# Altium integrated library Capacitor - Ceramic - Sumsung.IntLib: 1421 symbols (part 15 of 22)
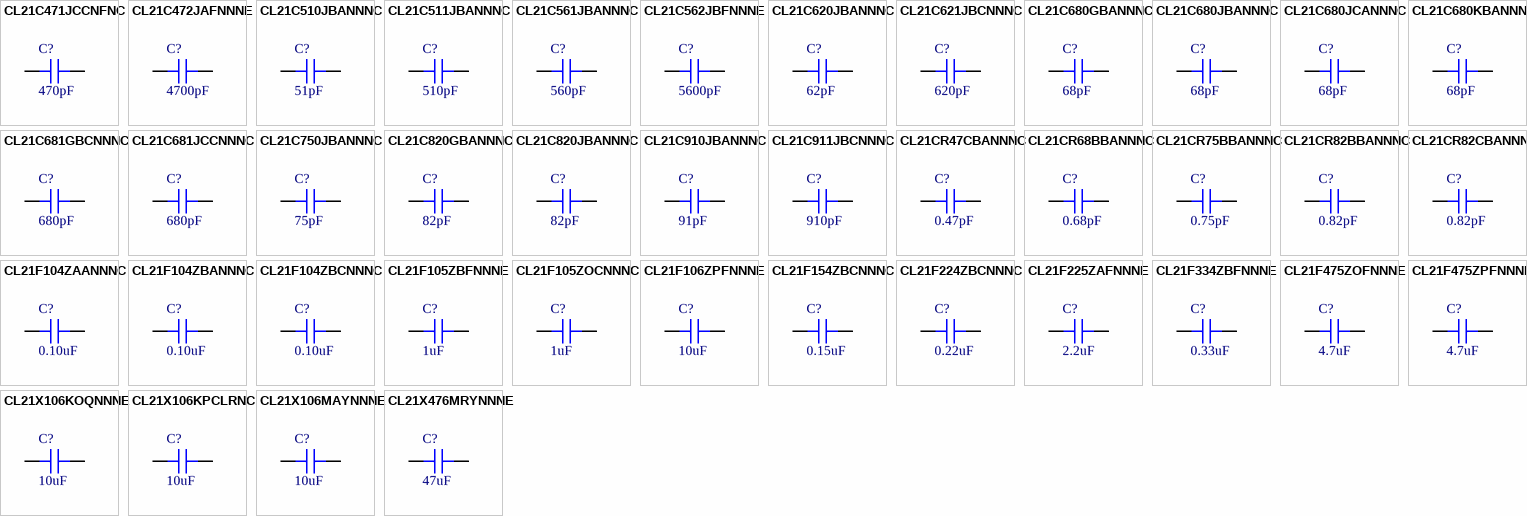
[diagram p49: symbols CL21C471JCCNFNC to CL21X476MRYNNNE]

## CL21CR82BBANNNC
designator C?, comment 0.82pF
CAP CER 0.82PF 50V NP0 0805; Part Number: CL21CR82BBANNNC; Manufacturer: Samsung Electro-Mechanics America, Inc.; TemperatureRange: -55C ~ 125C; TemperatureCoefficient: C0G, NP0; Tolerance: 0.1pF; Value: 0.82pF; PartId: 5691; Supplier 1: Digi-Key; Supplier Part Number 1: 1276-2703-2-ND; ComponentLink1Description: Datasheet; ComponentLink1URL: http://media.digikey.com/pdf/Data%20Sheets/Samsung%20PDFs/CL21CR82BBANNNC_Spec.pdf; ComponentLink2Description: Digi-Key listing; ComponentLink2URL: http://digikey.com/product-detail/en/CL21CR82BBANNNC/1276-2703-2-ND/3888361; Voltage: 50V; Price: 0.0075; Type: -; Device Package: 0805 (2012 Metric)
footprint CAP 0805/2012
pins: 1, 2

## CL21CR82CBANNNC
designator C?, comment 0.82pF
CAP CER 0.82PF 50V NP0 0805; Part Number: CL21CR82CBANNNC; Manufacturer: Samsung Electro-Mechanics America, Inc.; TemperatureRange: -55C ~ 125C; TemperatureCoefficient: C0G, NP0; Tolerance: 0.25pF; Value: 0.82pF; PartId: 5680; Supplier 1: Digi-Key; Supplier Part Number 1: 1276-2704-2-ND; ComponentLink1Description: Datasheet; ComponentLink1URL: http://media.digikey.com/pdf/Data%20Sheets/Samsung%20PDFs/CL21CR82CBANNNC_Spec.pdf; ComponentLink2Description: Digi-Key listing; ComponentLink2URL: http://digikey.com/product-detail/en/CL21CR82CBANNNC/1276-2704-2-ND/3888362; Voltage: 50V; Price: 0.0058; Type: -; Device Package: 0805 (2012 Metric)
footprint CAP 0805/2012
pins: 1, 2

## CL21F104ZAANNNC
designator C?, comment 0.10uF
CAP CER 0.1UF 25V Y5V 0805; Part Number: CL21F104ZAANNNC; Manufacturer: Samsung Electro-Mechanics America, Inc.; TemperatureRange: -30C ~ 85C; TemperatureCoefficient: Y5V (F); Tolerance: -20%, +80%; Value: 0.10uF; PartId: 13999; Supplier 1: Digi-Key; Supplier Part Number 1: 1276-1286-2-ND; ComponentLink1Description: Datasheet; ComponentLink1URL: http://www.samsungsem.com/kr/support/product-search/mlcc/CL21F104ZAANNNC.jsp; ComponentLink2Description: Digi-Key Listing; ComponentLink2URL: https://www.digikey.com/product-detail/en/samsung-electro-mechanics-america-inc/CL21F104ZAANNNC/1276-1286-2-ND/3886944; Voltage: 25V; Price: 0.006; Device Package: 0805 (2012 Metric)
footprint CAP 0805/2012
pins: 1, 2

## CL21F104ZBANNNC
designator C?, comment 0.10uF
CAP CER 0.1UF 50V Y5V 0805; Part Number: CL21F104ZBANNNC; Manufacturer: Samsung Electro-Mechanics America, Inc.; TemperatureRange: -30C ~ 85C; TemperatureCoefficient: Y5V (F); Tolerance: -20%, +80%; Value: 0.10uF; PartId: 14000; Supplier 1: Digi-Key; Supplier Part Number 1: 1276-1114-2-ND; ComponentLink1Description: Datasheet; ComponentLink1URL: http://www.samsungsem.com/kr/support/product-search/mlcc/CL21F104ZBANNNC.jsp; ComponentLink2Description: Digi-Key Listing; ComponentLink2URL: https://www.digikey.com/product-detail/en/samsung-electro-mechanics-america-inc/CL21F104ZBANNNC/1276-1114-2-ND/3886772; Voltage: 50V; Price: 0.006; Device Package: 0805 (2012 Metric)
footprint CAP 0805/2012
pins: 1, 2

## CL21F104ZBCNNNC
designator C?, comment 0.10uF
CAP CER 0.1UF 50V Y5V 0805; Part Number: CL21F104ZBCNNNC; Manufacturer: Samsung Electro-Mechanics America, Inc.; TemperatureRange: -30C ~ 85C; TemperatureCoefficient: Y5V (F); Tolerance: -20%, +80%; Value: 0.10uF; PartId: 13707; Supplier 1: Digi-Key; Supplier Part Number 1: 1276-1007-2-ND; ComponentLink1Description: Datasheet; ComponentLink1URL: http://www.samsungsem.com/kr/support/product-search/mlcc/CL21F104ZBCNNNC.jsp; ComponentLink2Description: Digi-Key Listing; ComponentLink2URL: https://www.digikey.com/product-detail/en/samsung-electro-mechanics-america-inc/CL21F104ZBCNNNC/1276-1007-2-ND/3886665; Voltage: 50V; Price: 0.006; Device Package: 0805 (2012 Metric)
footprint CAP 0805/2012
pins: 1, 2

## CL21F105ZBFNNNE
designator C?, comment 1uF
CAP CER 1UF 50V Y5V 0805; Part Number: CL21F105ZBFNNNE; Manufacturer: Samsung Electro-Mechanics America, Inc.; TemperatureRange: -30C ~ 85C; TemperatureCoefficient: Y5V (F); Tolerance: -20%, +80%; Value: 1uF; PartId: 13797; Supplier 1: Digi-Key; Supplier Part Number 1: 1276-3010-2-ND; ComponentLink1Description: Datasheet; ComponentLink1URL: http://www.samsungsem.com/kr/support/product-search/mlcc/CL21F105ZBFNNNE.jsp; ComponentLink2Description: Digi-Key Listing; ComponentLink2URL: https://www.digikey.com/product-detail/en/samsung-electro-mechanics-america-inc/CL21F105ZBFNNNE/1276-3010-2-ND/3888668; Voltage: 50V; Price: 0.0172; Device Package: 0805 (2012 Metric)
footprint CAP 0805/2012
pins: 1, 2

## CL21F105ZOCNNNC
designator C?, comment 1uF
CAP CER 1UF 16V Y5V 0805; Part Number: CL21F105ZOCNNNC; Manufacturer: Samsung Electro-Mechanics America, Inc.; TemperatureRange: -30C ~ 85C; TemperatureCoefficient: Y5V (F); Tolerance: -20%, +80%; Value: 1uF; PartId: 14027; Supplier 1: Digi-Key; Supplier Part Number 1: 1276-1246-2-ND; ComponentLink1Description: Datasheet; ComponentLink1URL: http://www.samsungsem.com/kr/support/product-search/mlcc/CL21F105ZOCNNNC.jsp; ComponentLink2Description: Digi-Key Listing; ComponentLink2URL: https://www.digikey.com/product-detail/en/samsung-electro-mechanics-america-inc/CL21F105ZOCNNNC/1276-1246-2-ND/3886904; Voltage: 16V; Price: 0.0082; Device Package: 0805 (2012 Metric)
footprint CAP 0805/2012
pins: 1, 2

## CL21F106ZPFNNNE
designator C?, comment 10uF
CAP CER 10UF 10V Y5V 0805; Part Number: CL21F106ZPFNNNE; Manufacturer: Samsung Electro-Mechanics America, Inc.; TemperatureRange: -30C ~ 85C; TemperatureCoefficient: Y5V (F); Tolerance: -20%, +80%; Value: 10uF; PartId: 13911; Supplier 1: Digi-Key; Supplier Part Number 1: 1276-3012-2-ND; ComponentLink1Description: Datasheet; ComponentLink1URL: http://www.samsungsem.com/kr/support/product-search/mlcc/CL21F106ZPFNNNE.jsp; ComponentLink2Description: Digi-Key Listing; ComponentLink2URL: https://www.digikey.com/product-detail/en/samsung-electro-mechanics-america-inc/CL21F106ZPFNNNE/1276-3012-2-ND/3888670; Voltage: 10V; Price: 0.0263; Device Package: 0805 (2012 Metric)
footprint CAP 0805/2012
pins: 1, 2

## CL21F154ZBCNNNC
designator C?, comment 0.15uF
CAP CER 0.15UF 50V Y5V 0805; Part Number: CL21F154ZBCNNNC; Manufacturer: Samsung Electro-Mechanics America, Inc.; TemperatureRange: -30C ~ 85C; TemperatureCoefficient: Y5V (F); Tolerance: -20%, +80%; Value: 0.15uF; PartId: 14028; Supplier 1: Digi-Key; Supplier Part Number 1: 1276-2708-2-ND; ComponentLink1Description: Datasheet; ComponentLink1URL: http://www.samsungsem.com/kr/support/product-search/mlcc/CL21F154ZBCNNNC.jsp; ComponentLink2Description: Digi-Key Listing; ComponentLink2URL: https://www.digikey.com/product-detail/en/samsung-electro-mechanics-america-inc/CL21F154ZBCNNNC/1276-2708-2-ND/3888366; Voltage: 50V; Price: 0.0042; Device Package: 0805 (2012 Metric)
footprint CAP 0805/2012
pins: 1, 2

## CL21F224ZBCNNNC
designator C?, comment 0.22uF
CAP CER 0.22UF 50V Y5V 0805; Part Number: CL21F224ZBCNNNC; Manufacturer: Samsung Electro-Mechanics America, Inc.; TemperatureRange: -30C ~ 85C; TemperatureCoefficient: Y5V (F); Tolerance: -20%, +80%; Value: 0.22uF; PartId: 14055; Supplier 1: Digi-Key; Supplier Part Number 1: 1276-2711-2-ND; ComponentLink1Description: Datasheet; ComponentLink1URL: http://www.samsungsem.com/kr/support/product-search/mlcc/CL21F224ZBCNNNC.jsp; ComponentLink2Description: Digi-Key Listing; ComponentLink2URL: https://www.digikey.com/product-detail/en/samsung-electro-mechanics-america-inc/CL21F224ZBCNNNC/1276-2711-2-ND/3888369; Voltage: 50V; Price: 0.0172; Device Package: 0805 (2012 Metric)
footprint CAP 0805/2012
pins: 1, 2

## CL21F225ZAFNNNE
designator C?, comment 2.2uF
CAP CER 2.2UF 25V Y5V 0805; Part Number: CL21F225ZAFNNNE; Manufacturer: Samsung Electro-Mechanics America, Inc.; TemperatureRange: -30C ~ 85C; TemperatureCoefficient: Y5V (F); Tolerance: -20%, +80%; Value: 2.2uF; PartId: 14054; Supplier 1: Digi-Key; Supplier Part Number 1: 1276-2874-2-ND; ComponentLink1Description: Datasheet; ComponentLink1URL: http://www.samsungsem.com/kr/support/product-search/mlcc/CL21F225ZAFNNNE.jsp; ComponentLink2Description: Digi-Key Listing; ComponentLink2URL: https://www.digikey.com/product-detail/en/samsung-electro-mechanics-america-inc/CL21F225ZAFNNNE/1276-2874-2-ND/3888532; Voltage: 25V; Price: 0.0205; Device Package: 0805 (2012 Metric)
footprint CAP 0805/2012
pins: 1, 2

## CL21F334ZBFNNNE
designator C?, comment 0.33uF
CAP CER 0.33UF 50V Y5V 0805; Part Number: CL21F334ZBFNNNE; Manufacturer: Samsung Electro-Mechanics America, Inc.; TemperatureRange: -30C ~ 85C; TemperatureCoefficient: Y5V (F); Tolerance: -20%, +80%; Value: 0.33uF; PartId: 14285; Supplier 1: Digi-Key; Supplier Part Number 1: 1276-3019-2-ND; ComponentLink1Description: Datasheet; ComponentLink1URL: http://www.samsungsem.com/kr/support/product-search/mlcc/CL21F334ZBFNNNE.jsp; ComponentLink2Description: Digi-Key Listing; ComponentLink2URL: https://www.digikey.com/product-detail/en/samsung-electro-mechanics-america-inc/CL21F334ZBFNNNE/1276-3019-2-ND/3888677; Voltage: 50V; Price: 0.01; Device Package: 0805 (2012 Metric)
footprint CAP 0805/2012
pins: 1, 2

## CL21F475ZOFNNNE
designator C?, comment 4.7uF
CAP CER 4.7UF 16V Y5V 0805; Part Number: CL21F475ZOFNNNE; Manufacturer: Samsung Electro-Mechanics America, Inc.; TemperatureRange: -30C ~ 85C; TemperatureCoefficient: Y5V (F); Tolerance: -20%, +80%; Value: 4.7uF; PartId: 13942; Supplier 1: Digi-Key; Supplier Part Number 1: 1276-3021-2-ND; ComponentLink1Description: Datasheet; ComponentLink1URL: http://www.samsungsem.com/kr/support/product-search/mlcc/CL21F475ZOFNNNE.jsp; ComponentLink2Description: Digi-Key Listing; ComponentLink2URL: https://www.digikey.com/product-detail/en/samsung-electro-mechanics-america-inc/CL21F475ZOFNNNE/1276-3021-2-ND/3888679; Voltage: 16V; Price: 0.0558; Device Package: 0805 (2012 Metric)
footprint CAP 0805/2012
pins: 1, 2

## CL21F475ZPFNNNE
designator C?, comment 4.7uF
CAP CER 4.7UF 10V Y5V 0805; Part Number: CL21F475ZPFNNNE; Manufacturer: Samsung Electro-Mechanics America, Inc.; TemperatureRange: -30C ~ 85C; TemperatureCoefficient: Y5V (F); Tolerance: -20%, +80%; Value: 4.7uF; PartId: 14284; Supplier 1: Digi-Key; Supplier Part Number 1: 1276-3022-2-ND; ComponentLink1Description: Datasheet; ComponentLink1URL: http://www.samsungsem.com/kr/support/product-search/mlcc/CL21F475ZPFNNNE.jsp; ComponentLink2Description: Digi-Key Listing; ComponentLink2URL: https://www.digikey.com/product-detail/en/samsung-electro-mechanics-america-inc/CL21F475ZPFNNNE/1276-3022-2-ND/3888680; Voltage: 10V; Price: 0.015; Device Package: 0805 (2012 Metric)
footprint CAP 0805/2012
pins: 1, 2

## CL21X106KOQNNNE
designator C?, comment 10uF
CAP CER 10UF 16V X6S 0805; Part Number: CL21X106KOQNNNE; Manufacturer: Samsung Electro-Mechanics America, Inc.; TemperatureRange: -55C ~ 105C; Tolerance: 10%; Value: 10uF; PartId: 14338; Supplier 1: Digi-Key; Supplier Part Number 1: 1276-3024-2-ND; ComponentLink1Description: Datasheet; ComponentLink1URL: //media.digikey.com/pdf/Data%20Sheets/Samsung%20PDFs/CL21X106KOQNNNE_Spec.pdf; ComponentLink2Description: Digi-Key Listing; ComponentLink2URL: https://www.digikey.com/product-detail/en/samsung-electro-mechanics-america-inc/CL21X106KOQNNNE/1276-3024-2-ND/3888682; TemperatureCoefficient: X6S; Voltage: 16V; Price: 0.054; Device Package: 0805 (2012 Metric)
footprint CAP 0805/2012
pins: 1, 2

## CL21X106KPCLRNC
designator C?, comment 10uF
CAP CER 10UF 10V X6S 0805; Part Number: CL21X106KPCLRNC; Manufacturer: Samsung Electro-Mechanics America, Inc.; TemperatureRange: -55C ~ 105C; Tolerance: 10%; Value: 10uF; PartId: 14216; Supplier 1: Digi-Key; Supplier Part Number 1: 1276-2717-2-ND; ComponentLink1Description: Datasheet; ComponentLink1URL: //media.digikey.com/pdf/Data%20Sheets/Samsung%20PDFs/CL21X106KPCLRNC_Spec.pdf; ComponentLink2Description: Digi-Key Listing; ComponentLink2URL: https://www.digikey.com/product-detail/en/samsung-electro-mechanics-america-inc/CL21X106KPCLRNC/1276-2717-2-ND/3888375; TemperatureCoefficient: X6S; Voltage: 10V; Price: 0.0477; Device Package: 0805 (2012 Metric)
footprint CAP 0805/2012
pins: 1, 2

## CL21X106MAYNNNE
designator C?, comment 10uF
CAP CER 10UF 25V X6S 0805; Part Number: CL21X106MAYNNNE; Manufacturer: Samsung Electro-Mechanics America, Inc.; TemperatureRange: -55C ~ 105C; Tolerance: 20%; Value: 10uF; PartId: 13890; Supplier 1: Digi-Key; Supplier Part Number 1: 1276-3027-2-ND; ComponentLink1Description: Datasheet; ComponentLink1URL: http://www.samsungsem.com/kr/front/downloadcms.do?path=/kr/support/product-search/mlcc/__icsFiles/afieldfile/2014/11/05&fileName=C_CL21X106MAYNNNE.pdf; ComponentLink2Description: Digi-Key Listing; ComponentLink2URL: https://www.digikey.com/product-detail/en/samsung-electro-mechanics-america-inc/CL21X106MAYNNNE/1276-3027-2-ND/3888685; TemperatureCoefficient: X6S; Voltage: 25V; Price: 0.1112; Device Package: 0805 (2012 Metric)
footprint CAP 0805/2012
pins: 1, 2

## CL21X476MRYNNNE
designator C?, comment 47uF
CAP CER 47UF 4V X6S 0805; Part Number: CL21X476MRYNNNE; Manufacturer: Samsung Electro-Mechanics America, Inc.; TemperatureRange: -55C ~ 105C; Tolerance: 20%; Value: 47uF; PartId: 14280; Supplier 1: Digi-Key; Supplier Part Number 1: 1276-3036-2-ND; ComponentLink1Description: Datasheet; ComponentLink1URL: http://www.samsungsem.com/kr/support/product-search/mlcc/CL21X476MRYNNNE.jsp; ComponentLink2Description: Digi-Key Listing; ComponentLink2URL: https://www.digikey.com/product-detail/en/samsung-electro-mechanics-america-inc/CL21X476MRYNNNE/1276-3036-2-ND/3888694; TemperatureCoefficient: X6S; Voltage: 4V; Price: 0.2064; Device Package: 0805 (2012 Metric)
footprint CAP 0805/2012
pins: 1, 2

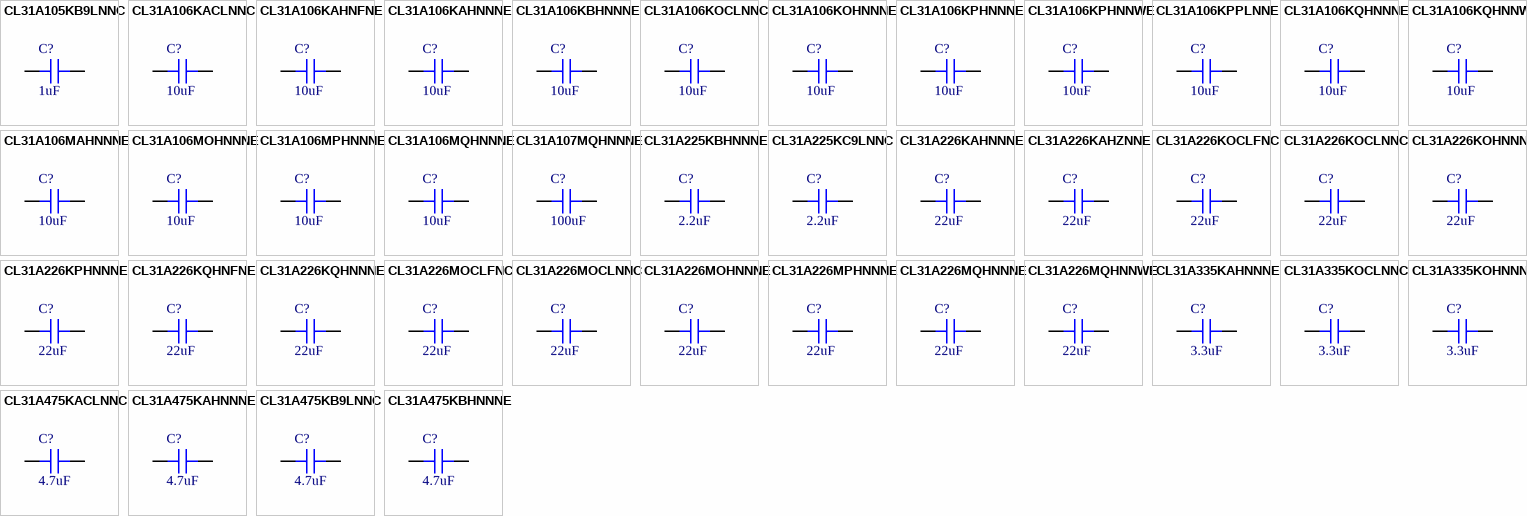
[diagram p24: symbols CL31A105KB9LNNC to CL31A475KBHNNNE]

## CL31A105KB9LNNC
designator C?, comment 1uF
CAP CER 1UF 50V X5R 1206; Part Number: CL31A105KB9LNNC; Manufacturer: Samsung Electro-Mechanics America, Inc.; TemperatureRange: -55C ~ 85C; Tolerance: 10%; Value: 1uF; PartId: 17215; Supplier 1: Digi-Key; Supplier Part Number 1: 1276-2719-2-ND; ComponentLink1Description: Datasheet; ComponentLink1URL: //media.digikey.com/pdf/Data%20Sheets/Samsung%20PDFs/CL31A105KB9LNNC_Spec.pdf; ComponentLink2Description: Digi-Key Listing; ComponentLink2URL: https://www.digikey.com/product-detail/en/samsung-electro-mechanics-america-inc/CL31A105KB9LNNC/1276-2719-2-ND/3888377; TemperatureCoefficient: X5R; Voltage: 50V; Price: 0.0722; Device Package: 1206 (3216 Metric)
footprint CAP 1206/3216 - 1.0MM
pins: 1, 2

## CL31A106KACLNNC
designator C?, comment 10uF
CAP CER 10UF 25V X5R 1206; Part Number: CL31A106KACLNNC; Manufacturer: Samsung Electro-Mechanics America, Inc.; TemperatureRange: -55C ~ 85C; Tolerance: 10%; Value: 10uF; PartId: 15863; Supplier 1: Digi-Key; Supplier Part Number 1: 1276-2720-2-ND; ComponentLink1Description: Datasheet; ComponentLink1URL: //media.digikey.com/pdf/Data%20Sheets/Samsung%20PDFs/CL31A106KACLNNC_Spec.pdf; ComponentLink2Description: Digi-Key Listing; ComponentLink2URL: https://www.digikey.com/product-detail/en/samsung-electro-mechanics-america-inc/CL31A106KACLNNC/1276-2720-2-ND/3888378; TemperatureCoefficient: X5R; Voltage: 25V; Price: 0.0661; Device Package: 1206 (3216 Metric)
footprint CAP 1206/3216
pins: 1, 2

## CL31A106KAHNFNE
designator C?, comment 10uF
CAP CER 10UF 25V X5R 1206; Part Number: CL31A106KAHNFNE; Manufacturer: Samsung Electro-Mechanics America, Inc.; TemperatureRange: -55C ~ 85C; Tolerance: 10%; Value: 10uF; PartId: 15948; Supplier 1: Digi-Key; Supplier Part Number 1: 1276-3038-2-ND; ComponentLink1Description: Datasheet; ComponentLink1URL: //media.digikey.com/pdf/Data%20Sheets/Samsung%20PDFs/CL31A106KAHNFNE_Spec.pdf; ComponentLink2Description: Digi-Key Listing; ComponentLink2URL: https://www.digikey.com/product-detail/en/samsung-electro-mechanics-america-inc/CL31A106KAHNFNE/1276-3038-2-ND/3888696; TemperatureCoefficient: X5R; Voltage: 25V; Price: 0.0613; Device Package: 1206 (3216 Metric)
footprint CAP 1206/3216
pins: 1, 2

## CL31A106KAHNNNE
designator C?, comment 10uF
CAP CER 10UF 25V X5R 1206; Part Number: CL31A106KAHNNNE; Manufacturer: Samsung Electro-Mechanics America, Inc.; TemperatureRange: -55C ~ 85C; Tolerance: 10%; Value: 10uF; PartId: 15740; Supplier 1: Digi-Key; Supplier Part Number 1: 1276-1075-2-ND; ComponentLink1Description: Datasheet; ComponentLink1URL: http://www.samsungsem.com/kr/support/product-search/mlcc/CL31A106KAHNNNE.jsp; ComponentLink2Description: Digi-Key Listing; ComponentLink2URL: https://www.digikey.com/product-detail/en/samsung-electro-mechanics-america-inc/CL31A106KAHNNNE/1276-1075-2-ND/3886733; TemperatureCoefficient: X5R; Voltage: 25V; Price: 0.0613; Device Package: 1206 (3216 Metric)
footprint CAP 1206/3216
pins: 1, 2

## CL31A106KBHNNNE
designator C?, comment 10uF
CAP CER 10UF 50V X5R 1206; Part Number: CL31A106KBHNNNE; Manufacturer: Samsung Electro-Mechanics America, Inc.; TemperatureRange: -55C ~ 85C; Tolerance: 10%; Value: 10uF; PartId: 15802; Supplier 1: Digi-Key; Supplier Part Number 1: 1276-2876-2-ND; ComponentLink1Description: Datasheet; ComponentLink1URL: http://www.samsungsem.com/kr/support/product-search/mlcc/CL31A106KBHNNNE.jsp; ComponentLink2Description: Digi-Key Listing; ComponentLink2URL: https://www.digikey.com/product-detail/en/samsung-electro-mechanics-america-inc/CL31A106KBHNNNE/1276-2876-2-ND/3888534; TemperatureCoefficient: X5R; Voltage: 50V; Price: 0.2078; Device Package: 1206 (3216 Metric)
footprint CAP 1206/3216
pins: 1, 2

## CL31A106KOCLNNC
designator C?, comment 10uF
CAP CER 10UF 16V X5R 1206; Part Number: CL31A106KOCLNNC; Manufacturer: Samsung Electro-Mechanics America, Inc.; TemperatureRange: -55C ~ 85C; Tolerance: 10%; Value: 10uF; PartId: 15855; Supplier 1: Digi-Key; Supplier Part Number 1: 1276-2721-2-ND; ComponentLink1Description: Datasheet; ComponentLink1URL: //media.digikey.com/pdf/Data%20Sheets/Samsung%20PDFs/CL31A106KOCLNNC_Spec.pdf; ComponentLink2Description: Digi-Key Listing; ComponentLink2URL: https://www.digikey.com/product-detail/en/samsung-electro-mechanics-america-inc/CL31A106KOCLNNC/1276-2721-2-ND/3888379; TemperatureCoefficient: X5R; Voltage: 16V; Price: 0.0558; Device Package: 1206 (3216 Metric)
footprint CAP 1206/3216
pins: 1, 2

## CL31A106KOHNNNE
designator C?, comment 10uF
CAP CER 10UF 16V X5R 1206; Part Number: CL31A106KOHNNNE; Manufacturer: Samsung Electro-Mechanics America, Inc.; TemperatureRange: -55C ~ 85C; Tolerance: 10%; Value: 10uF; PartId: 17475; Supplier 1: Digi-Key; Supplier Part Number 1: 1276-1137-2-ND; ComponentLink1Description: Datasheet; ComponentLink1URL: http://www.samsungsem.com/kr/support/product-search/mlcc/__icsFiles/afieldfile/2016/08/18/S_CL31A106KOHNNNE.pdf; ComponentLink2Description: Digi-Key Listing; ComponentLink2URL: https://www.digikey.com/product-detail/en/samsung-electro-mechanics-america-inc/CL31A106KOHNNNE/1276-1137-2-ND/3886795; TemperatureCoefficient: X5R; Voltage: 16V; Price: 0.0641; Device Package: 1206 (3216 Metric)
footprint CAP 1206/3216 - 1.8MM
pins: 1, 2

## CL31A106KPHNNNE
designator C?, comment 10uF
CAP CER 10UF 10V X5R 1206; Part Number: CL31A106KPHNNNE; Manufacturer: Samsung Electro-Mechanics America, Inc.; TemperatureRange: -55C ~ 85C; Tolerance: 10%; Value: 10uF; PartId: 15858; Supplier 1: Digi-Key; Supplier Part Number 1: 1276-1148-2-ND; ComponentLink1Description: Datasheet; ComponentLink1URL: http://www.samsungsem.com/kr/front/downloadcms.do?path=/kr/support/product-search/mlcc/__icsFiles/afieldfile/2014/11/05&fileName=C_CL31A106KPHNNNE.pdf; ComponentLink2Description: Digi-Key Listing; ComponentLink2URL: https://www.digikey.com/product-detail/en/samsung-electro-mechanics-america-inc/CL31A106KPHNNNE/1276-1148-2-ND/3886806; TemperatureCoefficient: X5R; Voltage: 10V; Price: 0.0583; Device Package: 1206 (3216 Metric)
footprint CAP 1206/3216
pins: 1, 2

## CL31A106KPHNNWE
designator C?, comment 10uF
CAP CER 10UF 10V X5R 1206; Part Number: CL31A106KPHNNWE; Manufacturer: Samsung Electro-Mechanics America, Inc.; TemperatureRange: -55C ~ 85C; Tolerance: 10%; Value: 10uF; PartId: 16018; Supplier 1: Digi-Key; Supplier Part Number 1: 1276-3041-2-ND; ComponentLink1Description: Datasheet; ComponentLink1URL: //media.digikey.com/pdf/Data%20Sheets/Samsung%20PDFs/CL31A106KPHNNWE_Spec.pdf; ComponentLink2Description: Digi-Key Listing; ComponentLink2URL: https://www.digikey.com/product-detail/en/samsung-electro-mechanics-america-inc/CL31A106KPHNNWE/1276-3041-2-ND/3888699; TemperatureCoefficient: X5R; Voltage: 10V; Price: 0.0632; Device Package: 1206 (3216 Metric)
footprint CAP 1206/3216
pins: 1, 2

## CL31A106KPPLNNE
designator C?, comment 10uF
CAP CER 10UF 10V X5R 1206; Part Number: CL31A106KPPLNNE; Manufacturer: Samsung Electro-Mechanics America, Inc.; TemperatureRange: -55C ~ 85C; Tolerance: 10%; Value: 10uF; PartId: 15949; Supplier 1: Digi-Key; Supplier Part Number 1: 1276-3042-2-ND; ComponentLink1Description: Datasheet; ComponentLink1URL: //media.digikey.com/pdf/Data%20Sheets/Samsung%20PDFs/CL31A106KPPLNNE_Spec.pdf; ComponentLink2Description: Digi-Key Listing; ComponentLink2URL: https://www.digikey.com/product-detail/en/samsung-electro-mechanics-america-inc/CL31A106KPPLNNE/1276-3042-2-ND/3888700; TemperatureCoefficient: X5R; Voltage: 10V; Price: 0.0613; Device Package: 1206 (3216 Metric)
footprint CAP 1206/3216
pins: 1, 2

## CL31A106KQHNNNE
designator C?, comment 10uF
CAP CER 10UF 6.3V X5R 1206; Part Number: CL31A106KQHNNNE; Manufacturer: Samsung Electro-Mechanics America, Inc.; TemperatureRange: -55C ~ 85C; Tolerance: 10%; Value: 10uF; PartId: 15857; Supplier 1: Digi-Key; Supplier Part Number 1: 1276-1079-2-ND; ComponentLink1Description: Datasheet; ComponentLink1URL: http://www.samsungsem.com/kr/front/downloadcms.do?path=/kr/support/product-search/mlcc/__icsFiles/afieldfile/2014/11/05&fileName=C_CL31A106KQHNNNE.pdf; ComponentLink2Description: Digi-Key Listing; ComponentLink2URL: https://www.digikey.com/product-detail/en/samsung-electro-mechanics-america-inc/CL31A106KQHNNNE/1276-1079-2-ND/3886737; TemperatureCoefficient: X5R; Voltage: 6.3V; Price: 0.0583; Device Package: 1206 (3216 Metric)
footprint CAP 1206/3216
pins: 1, 2

## CL31A106KQHNNWE
designator C?, comment 10uF
CAP CER 10UF 6.3V X5R 1206; Part Number: CL31A106KQHNNWE; Manufacturer: Samsung Electro-Mechanics America, Inc.; TemperatureRange: -55C ~ 85C; Tolerance: 10%; Value: 10uF; PartId: 16017; Supplier 1: Digi-Key; Supplier Part Number 1: 1276-3043-2-ND; ComponentLink1Description: Datasheet; ComponentLink1URL: //media.digikey.com/pdf/Data%20Sheets/Samsung%20PDFs/CL31A106KQHNNWE_Character.pdf; ComponentLink2Description: Digi-Key Listing; ComponentLink2URL: https://www.digikey.com/product-detail/en/samsung-electro-mechanics-america-inc/CL31A106KQHNNWE/1276-3043-2-ND/3888701; TemperatureCoefficient: X5R; Voltage: 6.3V; Price: 0.0583; Device Package: 1206 (3216 Metric)
footprint CAP 1206/3216
pins: 1, 2

## CL31A106MAHNNNE
designator C?, comment 10uF
CAP CER 10UF 25V X5R 1206; Part Number: CL31A106MAHNNNE; Manufacturer: Samsung Electro-Mechanics America, Inc.; TemperatureRange: -55C ~ 85C; Tolerance: 20%; Value: 10uF; PartId: 15860; Supplier 1: Digi-Key; Supplier Part Number 1: 1276-1181-2-ND; ComponentLink1Description: Datasheet; ComponentLink1URL: http://www.samsungsem.com/kr/front/downloadcms.do?path=/kr/support/product-search/mlcc/__icsFiles/afieldfile/2014/11/05&fileName=C_CL31A106MAHNNNE.pdf; ComponentLink2Description: Digi-Key Listing; ComponentLink2URL: https://www.digikey.com/product-detail/en/samsung-electro-mechanics-america-inc/CL31A106MAHNNNE/1276-1181-2-ND/3886839; TemperatureCoefficient: X5R; Voltage: 25V; Price: 0.0613; Device Package: 1206 (3216 Metric)
footprint CAP 1206/3216
pins: 1, 2

## CL31A106MOHNNNE
designator C?, comment 10uF
CAP CER 10UF 16V X5R 1206; Part Number: CL31A106MOHNNNE; Manufacturer: Samsung Electro-Mechanics America, Inc.; TemperatureRange: -55C ~ 85C; Tolerance: 20%; Value: 10uF; PartId: 17981; Supplier 1: Digi-Key; Supplier Part Number 1: 1276-2877-2-ND; ComponentLink1Description: Datasheet; ComponentLink1URL: //media.digikey.com/pdf/Data%20Sheets/Samsung%20PDFs/CL31A106MOHNNNE_Character.pdf; ComponentLink2Description: Digi-Key Listing; ComponentLink2URL: https://www.digikey.com/product-detail/en/samsung-electro-mechanics-america-inc/CL31A106MOHNNNE/1276-2877-2-ND/3888535; TemperatureCoefficient: X5R; Voltage: 16V; Price: 0.0641; Device Package: 1206 (3216 Metric)
footprint CAP 1206/3216 - 1.8MM
pins: 1, 2

## CL31A106MPHNNNE
designator C?, comment 10uF
CAP CER 10UF 10V X5R 1206; Part Number: CL31A106MPHNNNE; Manufacturer: Samsung Electro-Mechanics America, Inc.; TemperatureRange: -55C ~ 85C; Tolerance: 20%; Value: 10uF; PartId: 15946; Supplier 1: Digi-Key; Supplier Part Number 1: 1276-3044-2-ND; ComponentLink1Description: Datasheet; ComponentLink1URL: //media.digikey.com/pdf/Data%20Sheets/Samsung%20PDFs/CL31A106MPHNNNE_Spec.pdf; ComponentLink2Description: Digi-Key Listing; ComponentLink2URL: https://www.digikey.com/product-detail/en/samsung-electro-mechanics-america-inc/CL31A106MPHNNNE/1276-3044-2-ND/3888702; TemperatureCoefficient: X5R; Voltage: 10V; Price: 0.0583; Device Package: 1206 (3216 Metric)
footprint CAP 1206/3216
pins: 1, 2

## CL31A106MQHNNNE
designator C?, comment 10uF
CAP CER 10UF 6.3V X5R 1206; Part Number: CL31A106MQHNNNE; Manufacturer: Samsung Electro-Mechanics America, Inc.; TemperatureRange: -55C ~ 85C; Tolerance: 20%; Value: 10uF; PartId: 15947; Supplier 1: Digi-Key; Supplier Part Number 1: 1276-3045-2-ND; ComponentLink1Description: Datasheet; ComponentLink1URL: //media.digikey.com/pdf/Data%20Sheets/Samsung%20PDFs/CL31A106MQHNNNE_Spec.pdf; ComponentLink2Description: Digi-Key Listing; ComponentLink2URL: https://www.digikey.com/product-detail/en/samsung-electro-mechanics-america-inc/CL31A106MQHNNNE/1276-3045-2-ND/3888703; TemperatureCoefficient: X5R; Voltage: 6.3V; Price: 0.0583; Device Package: 1206 (3216 Metric)
footprint CAP 1206/3216
pins: 1, 2

## CL31A107MQHNNNE
designator C?, comment 100uF
CAP CER 100UF 6.3V X5R 1206; Part Number: CL31A107MQHNNNE; Manufacturer: Samsung Electro-Mechanics America, Inc.; TemperatureRange: -55C ~ 85C; Tolerance: 20%; Value: 100uF; PartId: 15816; Supplier 1: Digi-Key; Supplier Part Number 1: 1276-1782-2-ND; ComponentLink1Description: Datasheet; ComponentLink1URL: http://www.samsungsem.com/kr/support/product-search/mlcc/CL31A107MQHNNNE.jsp; ComponentLink2Description: Digi-Key Listing; ComponentLink2URL: https://www.digikey.com/product-detail/en/samsung-electro-mechanics-america-inc/CL31A107MQHNNNE/1276-1782-2-ND/3887440; TemperatureCoefficient: X5R; Voltage: 6.3V; Price: 0.272; Device Package: 1206 (3216 Metric)
footprint CAP 1206/3216
pins: 1, 2

## CL31A225KBHNNNE
designator C?, comment 2.2uF
CAP CER 2.2UF 50V X5R 1206; Part Number: CL31A225KBHNNNE; Manufacturer: Samsung Electro-Mechanics America, Inc.; TemperatureRange: -55C ~ 85C; Tolerance: 10%; Value: 2.2uF; PartId: 17982; Supplier 1: Digi-Key; Supplier Part Number 1: 1276-2878-2-ND; ComponentLink1Description: Datasheet; ComponentLink1URL: //media.digikey.com/pdf/Data%20Sheets/Samsung%20PDFs/CL31A225KBHNNNE_Spec.pdf; ComponentLink2Description: Digi-Key Listing; ComponentLink2URL: https://www.digikey.com/product-detail/en/samsung-electro-mechanics-america-inc/CL31A225KBHNNNE/1276-2878-2-ND/3888536; TemperatureCoefficient: X5R; Voltage: 50V; Price: 0.0629; Device Package: 1206 (3216 Metric)
footprint CAP 1206/3216 - 1.8MM
pins: 1, 2

## CL31A225KC9LNNC
designator C?, comment 2.2uF
CAP CER 2.2UF 100V X5R 1206; Part Number: CL31A225KC9LNNC; Manufacturer: Samsung Electro-Mechanics America, Inc.; TemperatureRange: -55C ~ 85C; Tolerance: 10%; Value: 2.2uF; PartId: 17146; Supplier 1: Digi-Key; Supplier Part Number 1: 1276-2724-2-ND; ComponentLink1Description: Datasheet; ComponentLink1URL: //media.digikey.com/pdf/Data%20Sheets/Samsung%20PDFs/CL31A225KC9LNNC_Spec.pdf; ComponentLink2Description: Digi-Key Listing; ComponentLink2URL: https://www.digikey.com/product-detail/en/samsung-electro-mechanics-america-inc/CL31A225KC9LNNC/1276-2724-2-ND/3888382; TemperatureCoefficient: X5R; Voltage: 100V; Price: 0.4253; Device Package: 1206 (3216 Metric)
footprint CAP 1206/3216 - 1.0MM
pins: 1, 2

## CL31A226KAHNNNE
designator C?, comment 22uF
CAP CER 22UF 25V X5R 1206; Part Number: CL31A226KAHNNNE; Manufacturer: Samsung Electro-Mechanics America, Inc.; TemperatureRange: -55C ~ 85C; Tolerance: 10%; Value: 22uF; PartId: 15794; Supplier 1: Digi-Key; Supplier Part Number 1: 1276-3047-2-ND; ComponentLink1Description: Datasheet; ComponentLink1URL: //media.digikey.com/pdf/Data%20Sheets/Samsung%20PDFs/CL31A226KAHNNNE_Spec.pdf; ComponentLink2Description: Digi-Key Listing; ComponentLink2URL: https://www.digikey.com/product-detail/en/samsung-electro-mechanics-america-inc/CL31A226KAHNNNE/1276-3047-2-ND/3888705; TemperatureCoefficient: X5R; Voltage: 25V; Price: 0.1785; Device Package: 1206 (3216 Metric)
footprint CAP 1206/3216
pins: 1, 2

## CL31A226KAHZNNE
designator C?, comment 22uF
CAP CER 22UF 25V X5R 1206; Part Number: CL31A226KAHZNNE; Manufacturer: Samsung Electro-Mechanics America, Inc.; TemperatureRange: -55C ~ 85C; Tolerance: 10%; Value: 22uF; PartId: 16086; Supplier 1: Digi-Key; Supplier Part Number 1: 1276-6411-2-ND; ComponentLink1Description: Datasheet; ComponentLink1URL: //media.digikey.com/pdf/Data%20Sheets/Samsung%20PDFs/CL31A226KAHZNNE_Spec.pdf; ComponentLink2Description: Digi-Key Listing; ComponentLink2URL: https://www.digikey.com/product-detail/en/samsung-electro-mechanics-america-inc/CL31A226KAHZNNE/1276-6411-2-ND/5396765; TemperatureCoefficient: X5R; Voltage: 25V; Price: 0.3497; Device Package: 1206 (3216 Metric)
footprint CAP 1206/3216
pins: 1, 2

## CL31A226KOCLFNC
designator C?, comment 22uF
CAP CER 22UF 16V X5R 1206; Part Number: CL31A226KOCLFNC; Manufacturer: Samsung Electro-Mechanics America, Inc.; TemperatureRange: -55C ~ 85C; Tolerance: 10%; Value: 22uF; PartId: 15776; Supplier 1: Digi-Key; Supplier Part Number 1: 1276-2725-2-ND; ComponentLink1Description: Datasheet; ComponentLink1URL: //media.digikey.com/pdf/Data%20Sheets/Samsung%20PDFs/CL31A226KOCLFNC_Spec.pdf; ComponentLink2Description: Digi-Key Listing; ComponentLink2URL: https://www.digikey.com/product-detail/en/samsung-electro-mechanics-america-inc/CL31A226KOCLFNC/1276-2725-2-ND/3888383; TemperatureCoefficient: X5R; Voltage: 16V; Price: 0.1265; Device Package: 1206 (3216 Metric)
footprint CAP 1206/3216
pins: 1, 2

## CL31A226KOCLNNC
designator C?, comment 22uF
CAP CER 22UF 16V X5R 1206; Part Number: CL31A226KOCLNNC; Manufacturer: Samsung Electro-Mechanics America, Inc.; TemperatureRange: -55C ~ 85C; Tolerance: 10%; Value: 22uF; PartId: 15900; Supplier 1: Digi-Key; Supplier Part Number 1: 1276-1803-2-ND; ComponentLink1Description: Datasheet; ComponentLink1URL: http://www.samsungsem.com/kr/front/downloadcms.do?path=/kr/support/product-search/mlcc/__icsFiles/afieldfile/2014/11/05&fileName=C_CL31A226KOCLNNC.pdf; ComponentLink2Description: Digi-Key Listing; ComponentLink2URL: https://www.digikey.com/product-detail/en/samsung-electro-mechanics-america-inc/CL31A226KOCLNNC/1276-1803-2-ND/3887461; TemperatureCoefficient: X5R; Voltage: 16V; Price: 0.1465; Device Package: 1206 (3216 Metric)
footprint CAP 1206/3216
pins: 1, 2

## CL31A226KOHNNNE
designator C?, comment 22uF
CAP CER 22UF 16V X5R 1206; Part Number: CL31A226KOHNNNE; Manufacturer: Samsung Electro-Mechanics America, Inc.; TemperatureRange: -55C ~ 85C; Tolerance: 10%; Value: 22uF; PartId: 15901; Supplier 1: Digi-Key; Supplier Part Number 1: 1276-3048-2-ND; ComponentLink1Description: Datasheet; ComponentLink1URL: http://www.samsungsem.com/kr/support/product-search/mlcc/CL31A226KOHNNNE.jsp; ComponentLink2Description: Digi-Key Listing; ComponentLink2URL: https://www.digikey.com/product-detail/en/samsung-electro-mechanics-america-inc/CL31A226KOHNNNE/1276-3048-2-ND/3888706; TemperatureCoefficient: X5R; Voltage: 16V; Price: 0.1506; Device Package: 1206 (3216 Metric)
footprint CAP 1206/3216
pins: 1, 2

## CL31A226KPHNNNE
designator C?, comment 22uF
CAP CER 22UF 10V X5R 1206; Part Number: CL31A226KPHNNNE; Manufacturer: Samsung Electro-Mechanics America, Inc.; TemperatureRange: -55C ~ 85C; Tolerance: 10%; Value: 22uF; PartId: 15771; Supplier 1: Digi-Key; Supplier Part Number 1: 1276-1287-2-ND; ComponentLink1Description: Datasheet; ComponentLink1URL: http://www.samsungsem.com/kr/front/downloadcms.do?path=/kr/support/product-search/mlcc/__icsFiles/afieldfile/2014/11/05&fileName=C_CL31A226KPHNNNE.pdf; ComponentLink2Description: Digi-Key Listing; ComponentLink2URL: https://www.digikey.com/product-detail/en/samsung-electro-mechanics-america-inc/CL31A226KPHNNNE/1276-1287-2-ND/3886945; TemperatureCoefficient: X5R; Voltage: 10V; Price: 0.1147; Device Package: 1206 (3216 Metric)
footprint CAP 1206/3216
pins: 1, 2

## CL31A226KQHNFNE
designator C?, comment 22uF
CAP CER 22UF 6.3V X5R 1206; Part Number: CL31A226KQHNFNE; Manufacturer: Samsung Electro-Mechanics America, Inc.; TemperatureRange: -55C ~ 85C; Tolerance: 10%; Value: 22uF; PartId: 16097; Supplier 1: Digi-Key; Supplier Part Number 1: 1276-3049-2-ND; ComponentLink1Description: Datasheet; ComponentLink1URL: //media.digikey.com/pdf/Data%20Sheets/Samsung%20PDFs/CL31A226KQHNFNE_Spec.pdf; ComponentLink2Description: Digi-Key Listing; ComponentLink2URL: https://www.digikey.com/product-detail/en/samsung-electro-mechanics-america-inc/CL31A226KQHNFNE/1276-3049-2-ND/3888707; TemperatureCoefficient: X5R; Voltage: 6.3V; Price: 0.1017; Device Package: 1206 (3216 Metric)
footprint CAP 1206/3216
pins: 1, 2

## CL31A226KQHNNNE
designator C?, comment 22uF
CAP CER 22UF 6.3V X5R 1206; Part Number: CL31A226KQHNNNE; Manufacturer: Samsung Electro-Mechanics America, Inc.; TemperatureRange: -55C ~ 85C; Tolerance: 10%; Value: 22uF; PartId: 15885; Supplier 1: Digi-Key; Supplier Part Number 1: 1276-1308-2-ND; ComponentLink1Description: Datasheet; ComponentLink1URL: http://www.samsungsem.com/kr/support/product-search/mlcc/CL31A226KQHNNNE.jsp; ComponentLink2Description: Digi-Key Listing; ComponentLink2URL: https://www.digikey.com/product-detail/en/samsung-electro-mechanics-america-inc/CL31A226KQHNNNE/1276-1308-2-ND/3886966; TemperatureCoefficient: X5R; Voltage: 6.3V; Price: 0.1017; Device Package: 1206 (3216 Metric)
footprint CAP 1206/3216
pins: 1, 2

## CL31A226MOCLFNC
designator C?, comment 22uF
CAP CER 22UF 16V X5R 1206; Part Number: CL31A226MOCLFNC; Manufacturer: Samsung Electro-Mechanics America, Inc.; TemperatureRange: -55C ~ 85C; Tolerance: 20%; Value: 22uF; PartId: 15887; Supplier 1: Digi-Key; Supplier Part Number 1: 1276-2727-2-ND; ComponentLink1Description: Datasheet; ComponentLink1URL: //media.digikey.com/pdf/Data%20Sheets/Samsung%20PDFs/CL31A226MOCLFNC_Spec.pdf; ComponentLink2Description: Digi-Key Listing; ComponentLink2URL: https://www.digikey.com/product-detail/en/samsung-electro-mechanics-america-inc/CL31A226MOCLFNC/1276-2727-2-ND/3888385; TemperatureCoefficient: X5R; Voltage: 16V; Price: 0.1114; Device Package: 1206 (3216 Metric)
footprint CAP 1206/3216
pins: 1, 2

## CL31A226MOCLNNC
designator C?, comment 22uF
CAP CER 22UF 16V X5R 1206; Part Number: CL31A226MOCLNNC; Manufacturer: Samsung Electro-Mechanics America, Inc.; TemperatureRange: -55C ~ 85C; Tolerance: 20%; Value: 22uF; PartId: 15759; Supplier 1: Digi-Key; Supplier Part Number 1: 1276-2728-2-ND; ComponentLink1Description: Datasheet; ComponentLink1URL: //media.digikey.com/pdf/Data%20Sheets/Samsung%20PDFs/CL31A226MOCLNNC_Spec.pdf; ComponentLink2Description: Digi-Key Listing; ComponentLink2URL: https://www.digikey.com/product-detail/en/samsung-electro-mechanics-america-inc/CL31A226MOCLNNC/1276-2728-2-ND/3888386; TemperatureCoefficient: X5R; Voltage: 16V; Price: 0.0942; Device Package: 1206 (3216 Metric)
footprint CAP 1206/3216
pins: 1, 2

## CL31A226MOHNNNE
designator C?, comment 22uF
CAP CER 22UF 16V X5R 1206; Part Number: CL31A226MOHNNNE; Manufacturer: Samsung Electro-Mechanics America, Inc.; TemperatureRange: -55C ~ 85C; Tolerance: 20%; Value: 22uF; PartId: 15981; Supplier 1: Digi-Key; Supplier Part Number 1: 1276-3050-2-ND; ComponentLink1Description: Datasheet; ComponentLink1URL: //media.digikey.com/pdf/Data%20Sheets/Samsung%20PDFs/CL31A226MOHNNNE_Spec.pdf; ComponentLink2Description: Digi-Key Listing; ComponentLink2URL: https://www.digikey.com/product-detail/en/samsung-electro-mechanics-america-inc/CL31A226MOHNNNE/1276-3050-2-ND/3888708; TemperatureCoefficient: X5R; Voltage: 16V; Price: 0.1506; Device Package: 1206 (3216 Metric)
footprint CAP 1206/3216
pins: 1, 2

## CL31A226MPHNNNE
designator C?, comment 22uF
CAP CER 22UF 10V X5R 1206; Part Number: CL31A226MPHNNNE; Manufacturer: Samsung Electro-Mechanics America, Inc.; TemperatureRange: -55C ~ 85C; Tolerance: 20%; Value: 22uF; PartId: 17642; Supplier 1: Digi-Key; Supplier Part Number 1: 1276-3051-2-ND; ComponentLink1Description: Datasheet; ComponentLink1URL: http://www.samsungsem.com/kr/support/product-search/mlcc/__icsFiles/afieldfile/2016/08/18/S_CL31A226MPHNNNE.pdf; ComponentLink2Description: Digi-Key Listing; ComponentLink2URL: https://www.digikey.com/product-detail/en/samsung-electro-mechanics-america-inc/CL31A226MPHNNNE/1276-3051-2-ND/3888709; TemperatureCoefficient: X5R; Voltage: 10V; Price: 0.1283; Device Package: 1206 (3216 Metric)
footprint CAP 1206/3216 - 1.8MM
pins: 1, 2

## CL31A226MQHNNNE
designator C?, comment 22uF
CAP CER 22UF 6.3V X5R 1206; Part Number: CL31A226MQHNNNE; Manufacturer: Samsung Electro-Mechanics America, Inc.; TemperatureRange: -55C ~ 85C; Tolerance: 20%; Value: 22uF; PartId: 15969; Supplier 1: Digi-Key; Supplier Part Number 1: 1276-1771-2-ND; ComponentLink1Description: Datasheet; ComponentLink1URL: http://www.samsungsem.com/kr/support/product-search/mlcc/CL31A226MQHNNNE.jsp; ComponentLink2Description: Digi-Key Listing; ComponentLink2URL: https://www.digikey.com/product-detail/en/samsung-electro-mechanics-america-inc/CL31A226MQHNNNE/1276-1771-2-ND/3887429; TemperatureCoefficient: X5R; Voltage: 6.3V; Price: 0.1017; Device Package: 1206 (3216 Metric)
footprint CAP 1206/3216
pins: 1, 2

## CL31A226MQHNNWE
designator C?, comment 22uF
CAP CER 22UF 6.3V X5R 1206; Part Number: CL31A226MQHNNWE; Manufacturer: Samsung Electro-Mechanics America, Inc.; TemperatureRange: -55C ~ 85C; Tolerance: 20%; Value: 22uF; PartId: 16023; Supplier 1: Digi-Key; Supplier Part Number 1: 1276-3052-2-ND; ComponentLink1Description: Datasheet; ComponentLink1URL: //media.digikey.com/pdf/Data%20Sheets/Samsung%20PDFs/CL31A226MQHNNWE_Spec.pdf; ComponentLink2Description: Digi-Key Listing; ComponentLink2URL: https://www.digikey.com/product-detail/en/samsung-electro-mechanics-america-inc/CL31A226MQHNNWE/1276-3052-2-ND/3888710; TemperatureCoefficient: X5R; Voltage: 6.3V; Price: 0.1017; Device Package: 1206 (3216 Metric)
footprint CAP 1206/3216
pins: 1, 2

## CL31A335KAHNNNE
designator C?, comment 3.3uF
CAP CER 3.3UF 25V X5R 1206; Part Number: CL31A335KAHNNNE; Manufacturer: Samsung Electro-Mechanics America, Inc.; TemperatureRange: -55C ~ 85C; Tolerance: 10%; Value: 3.3uF; PartId: 17960; Supplier 1: Digi-Key; Supplier Part Number 1: 1276-2879-2-ND; ComponentLink1Description: Datasheet; ComponentLink1URL: //media.digikey.com/pdf/Data%20Sheets/Samsung%20PDFs/CL31A335KAHNNNE_Character.pdf; ComponentLink2Description: Digi-Key Listing; ComponentLink2URL: https://www.digikey.com/product-detail/en/samsung-electro-mechanics-america-inc/CL31A335KAHNNNE/1276-2879-2-ND/3888537; TemperatureCoefficient: X5R; Voltage: 25V; Price: 0.1053; Device Package: 1206 (3216 Metric)
footprint CAP 1206/3216 - 1.8MM
pins: 1, 2

## CL31A335KOCLNNC
designator C?, comment 3.3uF
CAP CER 3.3UF 16V X5R 1206; Part Number: CL31A335KOCLNNC; Manufacturer: Samsung Electro-Mechanics America, Inc.; TemperatureRange: -55C ~ 85C; Tolerance: 10%; Value: 3.3uF; PartId: 17351; Supplier 1: Digi-Key; Supplier Part Number 1: 1276-2729-2-ND; ComponentLink1Description: Datasheet; ComponentLink1URL: http://www.samsungsem.com/kr/support/product-search/mlcc/__icsFiles/afieldfile/2016/08/18/S_CL31A335KOCLNNC.pdf; ComponentLink2Description: Digi-Key Listing; ComponentLink2URL: https://www.digikey.com/product-detail/en/samsung-electro-mechanics-america-inc/CL31A335KOCLNNC/1276-2729-2-ND/3888387; TemperatureCoefficient: X5R; Voltage: 16V; Price: 0.0534; Device Package: 1206 (3216 Metric)
footprint CAP 1206/3216 - 1.0MM
pins: 1, 2

## CL31A335KOHNNNE
designator C?, comment 3.3uF
CAP CER 3.3UF 16V X5R 1206; Part Number: CL31A335KOHNNNE; Manufacturer: Samsung Electro-Mechanics America, Inc.; TemperatureRange: -55C ~ 85C; Tolerance: 10%; Value: 3.3uF; PartId: 17646; Supplier 1: Digi-Key; Supplier Part Number 1: 1276-3053-2-ND; ComponentLink1Description: Datasheet; ComponentLink1URL: //media.digikey.com/pdf/Data%20Sheets/Samsung%20PDFs/CL31A335KOHNNNE_Spec.pdf; ComponentLink2Description: Digi-Key Listing; ComponentLink2URL: https://www.digikey.com/product-detail/en/samsung-electro-mechanics-america-inc/CL31A335KOHNNNE/1276-3053-2-ND/3888711; TemperatureCoefficient: X5R; Voltage: 16V; Price: 0.101; Device Package: 1206 (3216 Metric)
footprint CAP 1206/3216 - 1.8MM
pins: 1, 2

## CL31A475KACLNNC
designator C?, comment 4.7uF
CAP CER 4.7UF 25V X5R 1206; Part Number: CL31A475KACLNNC; Manufacturer: Samsung Electro-Mechanics America, Inc.; TemperatureRange: -55C ~ 85C; Tolerance: 10%; Value: 4.7uF; PartId: 16964; Supplier 1: Digi-Key; Supplier Part Number 1: 1276-2730-2-ND; ComponentLink1Description: Datasheet; ComponentLink1URL: //media.digikey.com/pdf/Data%20Sheets/Samsung%20PDFs/CL31A475KACLNNC_Spec.pdf; ComponentLink2Description: Digi-Key Listing; ComponentLink2URL: https://www.digikey.com/product-detail/en/samsung-electro-mechanics-america-inc/CL31A475KACLNNC/1276-2730-2-ND/3888388; TemperatureCoefficient: X5R; Voltage: 25V; Price: 0.0779; Device Package: 1206 (3216 Metric)
footprint CAP 1206/3216 - 1.0MM
pins: 1, 2

## CL31A475KAHNNNE
designator C?, comment 4.7uF
CAP CER 4.7UF 25V X5R 1206; Part Number: CL31A475KAHNNNE; Manufacturer: Samsung Electro-Mechanics America, Inc.; TemperatureRange: -55C ~ 85C; Tolerance: 10%; Value: 4.7uF; PartId: 17564; Supplier 1: Digi-Key; Supplier Part Number 1: 1276-2880-2-ND; ComponentLink1Description: Datasheet; ComponentLink1URL: //media.digikey.com/pdf/Data%20Sheets/Samsung%20PDFs/CL31A475KAHNNNE_Spec.pdf; ComponentLink2Description: Digi-Key Listing; ComponentLink2URL: https://www.digikey.com/product-detail/en/samsung-electro-mechanics-america-inc/CL31A475KAHNNNE/1276-2880-2-ND/3888538; TemperatureCoefficient: X5R; Voltage: 25V; Price: 0.0725; Device Package: 1206 (3216 Metric)
footprint CAP 1206/3216 - 1.8MM
pins: 1, 2

## CL31A475KB9LNNC
designator C?, comment 4.7uF
CAP CER 4.7UF 50V X5R 1206; Part Number: CL31A475KB9LNNC; Manufacturer: Samsung Electro-Mechanics America, Inc.; TemperatureRange: -55C ~ 85C; Tolerance: 10%; Value: 4.7uF; PartId: 17026; Supplier 1: Digi-Key; Supplier Part Number 1: 1276-2731-2-ND; ComponentLink1Description: Datasheet; ComponentLink1URL: //media.digikey.com/pdf/Data%20Sheets/Samsung%20PDFs/CL31A475KB9LNNC_Spec.pdf; ComponentLink2Description: Digi-Key Listing; ComponentLink2URL: https://www.digikey.com/product-detail/en/samsung-electro-mechanics-america-inc/CL31A475KB9LNNC/1276-2731-2-ND/3888389; TemperatureCoefficient: X5R; Voltage: 50V; Price: 0.1113; Device Package: 1206 (3216 Metric)
footprint CAP 1206/3216 - 1.0MM
pins: 1, 2

## CL31A475KBHNNNE
designator C?, comment 4.7uF
CAP CER 4.7UF 50V X5R 1206; Part Number: CL31A475KBHNNNE; Manufacturer: Samsung Electro-Mechanics America, Inc.; TemperatureRange: -55C ~ 85C; Tolerance: 10%; Value: 4.7uF; PartId: 17544; Supplier 1: Digi-Key; Supplier Part Number 1: 1276-3057-2-ND; ComponentLink1Description: Datasheet; ComponentLink1URL: //media.digikey.com/pdf/Data%20Sheets/Samsung%20PDFs/CL31A475KBHNNNE_Spec.pdf; ComponentLink2Description: Digi-Key Listing; ComponentLink2URL: https://www.digikey.com/product-detail/en/samsung-electro-mechanics-america-inc/CL31A475KBHNNNE/1276-3057-2-ND/3888715; TemperatureCoefficient: X5R; Voltage: 50V; Price: 0.1165; Device Package: 1206 (3216 Metric)
footprint CAP 1206/3216 - 1.8MM
pins: 1, 2

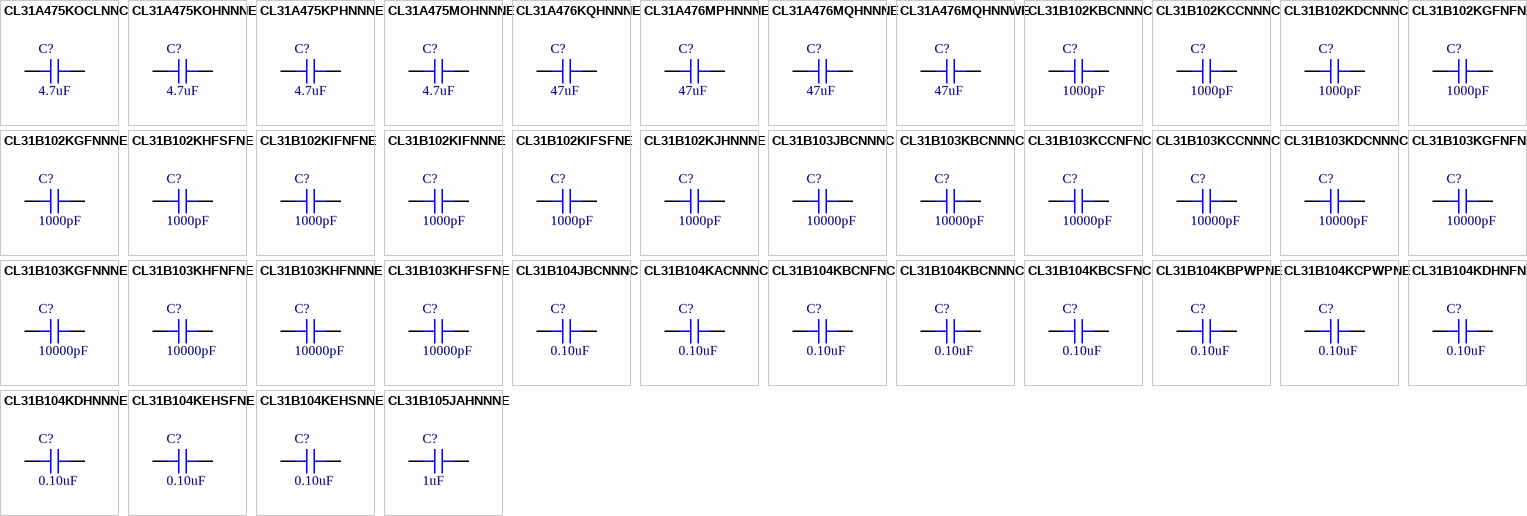
[diagram p25: symbols CL31A475KOCLNNC to CL31B105JAHNNNE]

## CL31A475KOCLNNC
designator C?, comment 4.7uF
CAP CER 4.7UF 16V X5R 1206; Part Number: CL31A475KOCLNNC; Manufacturer: Samsung Electro-Mechanics America, Inc.; TemperatureRange: -55C ~ 85C; Tolerance: 10%; Value: 4.7uF; PartId: 17212; Supplier 1: Digi-Key; Supplier Part Number 1: 1276-2733-2-ND; ComponentLink1Description: Datasheet; ComponentLink1URL: //media.digikey.com/pdf/Data%20Sheets/Samsung%20PDFs/CL31A475KOCLNNC_Spec.pdf; ComponentLink2Description: Digi-Key Listing; ComponentLink2URL: https://www.digikey.com/product-detail/en/samsung-electro-mechanics-america-inc/CL31A475KOCLNNC/1276-2733-2-ND/3888391; TemperatureCoefficient: X5R; Voltage: 16V; Price: 0.0779; Device Package: 1206 (3216 Metric)
footprint CAP 1206/3216 - 1.0MM
pins: 1, 2

## CL31A475KOHNNNE
designator C?, comment 4.7uF
CAP CER 4.7UF 16V X5R 1206; Part Number: CL31A475KOHNNNE; Manufacturer: Samsung Electro-Mechanics America, Inc.; TemperatureRange: -55C ~ 85C; Tolerance: 10%; Value: 4.7uF; PartId: 17565; Supplier 1: Digi-Key; Supplier Part Number 1: 1276-3059-2-ND; ComponentLink1Description: Datasheet; ComponentLink1URL: //media.digikey.com/pdf/Data%20Sheets/Samsung%20PDFs/CL31A475KOHNNNE_Spec.pdf; ComponentLink2Description: Digi-Key Listing; ComponentLink2URL: https://www.digikey.com/product-detail/en/samsung-electro-mechanics-america-inc/CL31A475KOHNNNE/1276-3059-2-ND/3888717; TemperatureCoefficient: X5R; Voltage: 16V; Price: 0.0695; Device Package: 1206 (3216 Metric)
footprint CAP 1206/3216 - 1.8MM
pins: 1, 2

## CL31A475KPHNNNE
designator C?, comment 4.7uF
CAP CER 4.7UF 10V X5R 1206; Part Number: CL31A475KPHNNNE; Manufacturer: Samsung Electro-Mechanics America, Inc.; TemperatureRange: -55C ~ 85C; Tolerance: 10%; Value: 4.7uF; PartId: 17670; Supplier 1: Digi-Key; Supplier Part Number 1: 1276-1809-2-ND; ComponentLink1Description: Datasheet; ComponentLink1URL: http://www.samsungsem.com/kr/front/downloadcms.do?path=/kr/support/product-search/mlcc/__icsFiles/afieldfile/2014/11/05&fileName=C_CL31A475KPHNNNE.pdf; ComponentLink2Description: Digi-Key Listing; ComponentLink2URL: https://www.digikey.com/product-detail/en/samsung-electro-mechanics-america-inc/CL31A475KPHNNNE/1276-1809-2-ND/3887467; TemperatureCoefficient: X5R; Voltage: 10V; Price: 0.0695; Device Package: 1206 (3216 Metric)
footprint CAP 1206/3216 - 1.8MM
pins: 1, 2

## CL31A475MOHNNNE
designator C?, comment 4.7uF
CAP CER 4.7UF 16V X5R 1206; Part Number: CL31A475MOHNNNE; Manufacturer: Samsung Electro-Mechanics America, Inc.; TemperatureRange: -55C ~ 85C; Tolerance: 20%; Value: 4.7uF; PartId: 17978; Supplier 1: Digi-Key; Supplier Part Number 1: 1276-3061-2-ND; ComponentLink1Description: Datasheet; ComponentLink1URL: //media.digikey.com/pdf/Data%20Sheets/Samsung%20PDFs/CL31A475MOHNNNE_Spec.pdf; ComponentLink2Description: Digi-Key Listing; ComponentLink2URL: https://www.digikey.com/product-detail/en/samsung-electro-mechanics-america-inc/CL31A475MOHNNNE/1276-3061-2-ND/3888719; TemperatureCoefficient: X5R; Voltage: 16V; Price: 0.0695; Device Package: 1206 (3216 Metric)
footprint CAP 1206/3216 - 1.8MM
pins: 1, 2

## CL31A476KQHNNNE
designator C?, comment 47uF
CAP CER 47UF 6.3V X5R 1206; Part Number: CL31A476KQHNNNE; Manufacturer: Samsung Electro-Mechanics America, Inc.; TemperatureRange: -55C ~ 85C; Tolerance: 10%; Value: 47uF; PartId: 15930; Supplier 1: Digi-Key; Supplier Part Number 1: 1276-3062-2-ND; ComponentLink1Description: Datasheet; ComponentLink1URL: //media.digikey.com/pdf/Data%20Sheets/Samsung%20PDFs/CL31A476KQHNNNE_Spec.pdf; ComponentLink2Description: Digi-Key Listing; ComponentLink2URL: https://www.digikey.com/product-detail/en/samsung-electro-mechanics-america-inc/CL31A476KQHNNNE/1276-3062-2-ND/3888720; TemperatureCoefficient: X5R; Voltage: 6.3V; Price: 0.3017; Device Package: 1206 (3216 Metric)
footprint CAP 1206/3216
pins: 1, 2

## CL31A476MPHNNNE
designator C?, comment 47uF
CAP CER 47UF 10V X5R 1206; Part Number: CL31A476MPHNNNE; Manufacturer: Samsung Electro-Mechanics America, Inc.; TemperatureRange: -55C ~ 85C; Tolerance: 20%; Value: 47uF; PartId: 15809; Supplier 1: Digi-Key; Supplier Part Number 1: 1276-3063-2-ND; ComponentLink1Description: Datasheet; ComponentLink1URL: //media.digikey.com/pdf/Data%20Sheets/Samsung%20PDFs/CL31A476MPHNNNE_Spec.pdf; ComponentLink2Description: Digi-Key Listing; ComponentLink2URL: https://www.digikey.com/product-detail/en/samsung-electro-mechanics-america-inc/CL31A476MPHNNNE/1276-3063-2-ND/3888721; TemperatureCoefficient: X5R; Voltage: 10V; Price: 0.2455; Device Package: 1206 (3216 Metric)
footprint CAP 1206/3216
pins: 1, 2

## CL31A476MQHNNNE
designator C?, comment 47uF
CAP CER 47UF 6.3V X5R 1206; Part Number: CL31A476MQHNNNE; Manufacturer: Samsung Electro-Mechanics America, Inc.; TemperatureRange: -55C ~ 85C; Tolerance: 20%; Value: 47uF; PartId: 15787; Supplier 1: Digi-Key; Supplier Part Number 1: 1276-1167-2-ND; ComponentLink1Description: Datasheet; ComponentLink1URL: http://www.samsungsem.com/kr/support/product-search/mlcc/CL31A476MQHNNNE.jsp; ComponentLink2Description: Digi-Key Listing; ComponentLink2URL: https://www.digikey.com/product-detail/en/samsung-electro-mechanics-america-inc/CL31A476MQHNNNE/1276-1167-2-ND/3886825; TemperatureCoefficient: X5R; Voltage: 6.3V; Price: 0.1643; Device Package: 1206 (3216 Metric)
footprint CAP 1206/3216
pins: 1, 2